# Altium footprint library connectorsmd.PcbLib: 4 footprints
Each footprint in its own frame and in the unit in brackets; x right, y up, seen from the top. Pads: shape width x height; smd on the part's side, far side on the other; paste and mask are expansions set on the pad; w line width, h text height; cw(c..) or ccw(c..) is an arc to the next point about the centre after c.
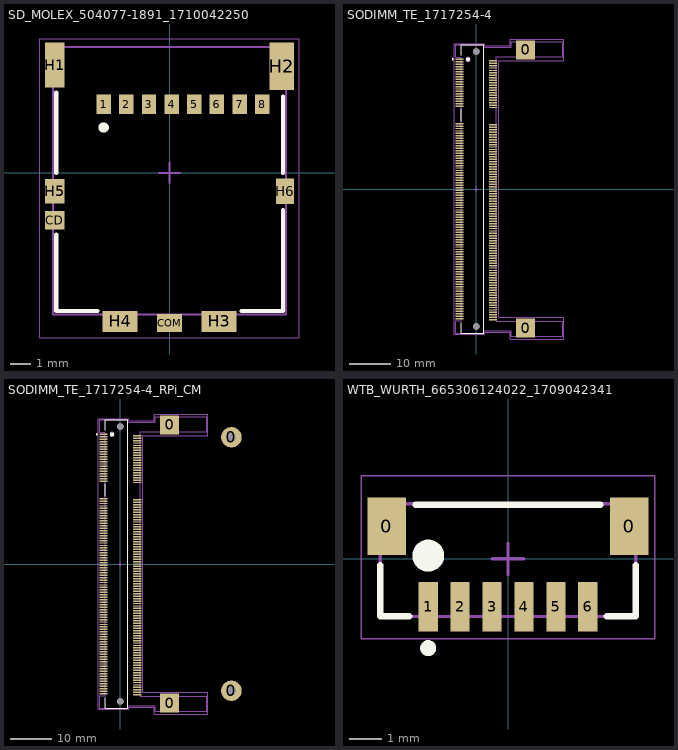
[diagram p0: the footprints below, top view; thin cyan lines are the x and y axes]

## SD_MOLEX_504077-1891_1710042250 [mm] "uSD Molex 504077-1891"
height 1.28
pads (16):
  rect 0.7x0.95 smd: 1(-3.2,3.335) 2(-2.1,3.335) 3(-1,3.335) 4(0.1,3.335) 5(1.2,3.335) 6(2.3,3.335) 7(3.4,3.335) 8(4.5,3.335)
  rect 0.95x0.9 smd: CD(-5.575,-2.3)
  rect 1.2x0.88 smd: COM(0,-7.29)
  rect 0.95x2.17 smd: H1(-5.575,5.235)
  rect 1.19x2.3 smd: H2(5.455,5.17)
  rect 1.7x1.03 smd: H3(2.4,-7.215) H4(-2.4,-7.215)
  rect 0.95x1.2 smd: H5(-5.575,-0.89)
  rect 0.88x1.25 smd: H6(5.61,-0.895)
Top Overlay:
  circle w0.25: c-3.2,2.2 r0.125
  lines w0.2: -5.5,-3 -5.5,-6.7 -3.5,-6.7 ; -5.5,0 -5.5,3.9 ; 3.5,-6.7 5.5,-6.7 5.5,-1.8 ; 5.5,0 5.5,3.7
Assembly Outline:
  lines w0.1: -5.66,-6.88 5.66,-6.88 5.66,6.12 -5.66,6.12 -5.66,-6.88
Assembly Refdes:
  text ".Designator" at 0,0 h0.5
Courtyard Outline:
  lines w0.05: -6.3,-8 -6.3,6.5 6.3,6.5 6.3,-8 -6.3,-8
  lines w0.1: -0.5,0 0.5,0 ; 0,-0.5 0,0.5
3D body "5040771891.stp": height 1.41, standoff 0.13, extent -5.671,-7.385 5.709,6.115

## SODIMM_TE_1717254-4 [mm] "SODIMM 200 pin DDR2 TE 1717254-4"
height 1.75
pads (204):
  round 1.6 hole 1.6 unplated: 0(0,-33.4) 0(0,33.4)
  rect 4.6x4.6 smd: 0(12,-33.8) 0(12,33.8)
  rect 2x0.35 smd: 1(-4.1,31.5) 2(4.1,31.2) 3(-4.1,30.9) 4(4.1,30.6) 5(-4.1,30.3) 6(4.1,30) 7(-4.1,29.7) 8(4.1,29.4) 9(-4.1,29.1) 10(4.1,28.8) 11(-4.1,28.5) 12(4.1,28.2) 13(-4.1,27.9) 14(4.1,27.6) 15(-4.1,27.3) 16(4.1,27) 17(-4.1,26.7) 18(4.1,26.4) 19(-4.1,26.1) 20(4.1,25.8) 21(-4.1,25.5) 22(4.1,25.2) 23(-4.1,24.9) 24(4.1,24.6) 25(-4.1,24.3) 26(4.1,24) 27(-4.1,23.7) 28(4.1,23.4) 29(-4.1,23.1) 30(4.1,22.8) 31(-4.1,22.5) 32(4.1,22.2) 33(-4.1,21.9) 34(4.1,21.6) 35(-4.1,21.3) 36(4.1,21) 37(-4.1,20.7) 38(4.1,20.4) 39(-4.1,20.1) 40(4.1,19.8) 41(-4.1,15.9) 42(4.1,15.6) 43(-4.1,15.3) 44(4.1,15) 45(-4.1,14.7) 46(4.1,14.4) 47(-4.1,14.1) 48(4.1,13.8) 49(-4.1,13.5) 50(4.1,13.2) 51(-4.1,12.9) 52(4.1,12.6) 53(-4.1,12.3) 54(4.1,12) 55(-4.1,11.7) 56(4.1,11.4) 57(-4.1,11.1) 58(4.1,10.8) 59(-4.1,10.5) 60(4.1,10.2) 61(-4.1,9.9) 62(4.1,9.6) 63(-4.1,9.3) 64(4.1,9) 65(-4.1,8.7) 66(4.1,8.4) 67(-4.1,8.1) 68(4.1,7.8) 69(-4.1,7.5) 70(4.1,7.2) 71(-4.1,6.9) 72(4.1,6.6) 73(-4.1,6.3) 74(4.1,6) 75(-4.1,5.7) 76(4.1,5.4) 77(-4.1,5.1) 78(4.1,4.8) 79(-4.1,4.5) 80(4.1,4.2) 81(-4.1,3.9) 82(4.1,3.6) 83(-4.1,3.3) 84(4.1,3) 85(-4.1,2.7) 86(4.1,2.4) 87(-4.1,2.1) 88(4.1,1.8) 89(-4.1,1.5) 90(4.1,1.2) 91(-4.1,0.9) 92(4.1,0.6) 93(-4.1,0.3) 94(4.1,0) 95(-4.1,-0.3) 96(4.1,-0.6) 97(-4.1,-0.9) 98(4.1,-1.2) 99(-4.1,-1.5) 100(4.1,-1.8) 101(-4.1,-2.1) 102(4.1,-2.4) 103(-4.1,-2.7) 104(4.1,-3) 105(-4.1,-3.3) 106(4.1,-3.6) 107(-4.1,-3.9) 108(4.1,-4.2) 109(-4.1,-4.5) 110(4.1,-4.8) 111(-4.1,-5.1) 112(4.1,-5.4) 113(-4.1,-5.7) 114(4.1,-6) 115(-4.1,-6.3) 116(4.1,-6.6) 117(-4.1,-6.9) 118(4.1,-7.2) 119(-4.1,-7.5) 120(4.1,-7.8) 121(-4.1,-8.1) 122(4.1,-8.4) 123(-4.1,-8.7) 124(4.1,-9) 125(-4.1,-9.3) 126(4.1,-9.6) 127(-4.1,-9.9) 128(4.1,-10.2) 129(-4.1,-10.5) 130(4.1,-10.8) 131(-4.1,-11.1) 132(4.1,-11.4) 133(-4.1,-11.7) 134(4.1,-12) 135(-4.1,-12.3) 136(4.1,-12.6) 137(-4.1,-12.9) 138(4.1,-13.2) 139(-4.1,-13.5) 140(4.1,-13.8) 141(-4.1,-14.1) 142(4.1,-14.4) 143(-4.1,-14.7) 144(4.1,-15) 145(-4.1,-15.3) 146(4.1,-15.6) 147(-4.1,-15.9) 148(4.1,-16.2) 149(-4.1,-16.5) 150(4.1,-16.8) 151(-4.1,-17.1) 152(4.1,-17.4) 153(-4.1,-17.7) 154(4.1,-18) 155(-4.1,-18.3) 156(4.1,-18.6) 157(-4.1,-18.9) 158(4.1,-19.2) 159(-4.1,-19.5) 160(4.1,-19.8) 161(-4.1,-20.1) 162(4.1,-20.4) 163(-4.1,-20.7) 164(4.1,-21) 165(-4.1,-21.3) 166(4.1,-21.6) 167(-4.1,-21.9) 168(4.1,-22.2) 169(-4.1,-22.5) 170(4.1,-22.8) 171(-4.1,-23.1) 172(4.1,-23.4) 173(-4.1,-23.7) 174(4.1,-24) 175(-4.1,-24.3) 176(4.1,-24.6) 177(-4.1,-24.9) 178(4.1,-25.2) 179(-4.1,-25.5) 180(4.1,-25.8) 181(-4.1,-26.1) 182(4.1,-26.4) 183(-4.1,-26.7) 184(4.1,-27) 185(-4.1,-27.3) 186(4.1,-27.6) 187(-4.1,-27.9) 188(4.1,-28.2) 189(-4.1,-28.5) 190(4.1,-28.8) 191(-4.1,-29.1) 192(4.1,-29.4) 193(-4.1,-29.7) 194(4.1,-30) 195(-4.1,-30.3) 196(4.1,-30.6) 197(-4.1,-30.9) 198(4.1,-31.2) 199(-4.1,-31.5) 200(4.1,-31.8)
Top Overlay:
  circle w0.25: c-5.7,31.5 r0.125
  circle w0.6: c-2,31.5 r0.2
  lines w0.2: -3.7,-32.5 -3.7,-35 1.85,-35 1.85,35 -3.7,35 -3.7,32.5 ; -3.7,16.5 -3.7,19.5
Assembly Outline:
  circle w0.1: c-2,31.5 r0.5
  lines w0.1: -5,-35 1.85,-35 1.85,-34.5 5,-34.5 8.45,-34.5 8.45,-35.75 21,-35.75 21,-34.5 21,-32.1 4.8,-32.1 4.8,-16.4 4.8,16.4 4.8,21.269 4.8,28.256 4.8,32.1 21,32.1 21,34.5 21,35.75 8.45,35.75 8.45,34.5 5,34.5 1.85,34.5 1.85,35 -5,35 -5,32 -3.7,32 -3.7,-23.2 -3.7,-32 -5,-32 -5,-35
Assembly Refdes:
  text ".Designator" at 0,0 h0.5
Courtyard Outline:
  lines w0.05: -5.35,-35.25 2.1,-35.25 2.1,-34.75 2.75,-34.75 7.375,-34.75 8.2,-34.75 8.2,-36.45 21.25,-36.45 21.25,-34.75 21.25,-31.125 5.45,-31.125 5.45,-27.85 5.45,-19.35 5.45,31.125 21.25,31.125 21.25,34.75 21.25,36.45 8.2,36.45 8.2,34.75 7.375,34.75 2.75,34.75 2.1,34.75 2.1,35.25 -5.35,35.25 -5.35,-35.25
  lines w0.1: -0.5,0 0.5,0 ; 0,-0.5 0,0.5
3D body "c-1717254-4-d1-3d.stp": height 5.28, standoff -0.62, extent -5,-35.75 21.04,35.75

## SODIMM_TE_1717254-4_RPi_CM [mm] "SODIMM 200 pin DDR2 TE 1717254-4"
height 1.75
pads (206):
  round 1.6 hole 1.6 unplated: 0(0,-33.4) 0(0,33.4)
  rect 4.6x4.6 smd: 0(12,-33.8) 0(12,33.8)
  round 5 hole 2.3: 0(27,-30.8) 0(27,30.8)
  rect 2x0.35 smd: 1(-4.1,31.5) 2(4.1,31.2) 3(-4.1,30.9) 4(4.1,30.6) 5(-4.1,30.3) 6(4.1,30) 7(-4.1,29.7) 8(4.1,29.4) 9(-4.1,29.1) 10(4.1,28.8) 11(-4.1,28.5) 12(4.1,28.2) 13(-4.1,27.9) 14(4.1,27.6) 15(-4.1,27.3) 16(4.1,27) 17(-4.1,26.7) 18(4.1,26.4) 19(-4.1,26.1) 20(4.1,25.8) 21(-4.1,25.5) 22(4.1,25.2) 23(-4.1,24.9) 24(4.1,24.6) 25(-4.1,24.3) 26(4.1,24) 27(-4.1,23.7) 28(4.1,23.4) 29(-4.1,23.1) 30(4.1,22.8) 31(-4.1,22.5) 32(4.1,22.2) 33(-4.1,21.9) 34(4.1,21.6) 35(-4.1,21.3) 36(4.1,21) 37(-4.1,20.7) 38(4.1,20.4) 39(-4.1,20.1) 40(4.1,19.8) 41(-4.1,15.9) 42(4.1,15.6) 43(-4.1,15.3) 44(4.1,15) 45(-4.1,14.7) 46(4.1,14.4) 47(-4.1,14.1) 48(4.1,13.8) 49(-4.1,13.5) 50(4.1,13.2) 51(-4.1,12.9) 52(4.1,12.6) 53(-4.1,12.3) 54(4.1,12) 55(-4.1,11.7) 56(4.1,11.4) 57(-4.1,11.1) 58(4.1,10.8) 59(-4.1,10.5) 60(4.1,10.2) 61(-4.1,9.9) 62(4.1,9.6) 63(-4.1,9.3) 64(4.1,9) 65(-4.1,8.7) 66(4.1,8.4) 67(-4.1,8.1) 68(4.1,7.8) 69(-4.1,7.5) 70(4.1,7.2) 71(-4.1,6.9) 72(4.1,6.6) 73(-4.1,6.3) 74(4.1,6) 75(-4.1,5.7) 76(4.1,5.4) 77(-4.1,5.1) 78(4.1,4.8) 79(-4.1,4.5) 80(4.1,4.2) 81(-4.1,3.9) 82(4.1,3.6) 83(-4.1,3.3) 84(4.1,3) 85(-4.1,2.7) 86(4.1,2.4) 87(-4.1,2.1) 88(4.1,1.8) 89(-4.1,1.5) 90(4.1,1.2) 91(-4.1,0.9) 92(4.1,0.6) 93(-4.1,0.3) 94(4.1,0) 95(-4.1,-0.3) 96(4.1,-0.6) 97(-4.1,-0.9) 98(4.1,-1.2) 99(-4.1,-1.5) 100(4.1,-1.8) 101(-4.1,-2.1) 102(4.1,-2.4) 103(-4.1,-2.7) 104(4.1,-3) 105(-4.1,-3.3) 106(4.1,-3.6) 107(-4.1,-3.9) 108(4.1,-4.2) 109(-4.1,-4.5) 110(4.1,-4.8) 111(-4.1,-5.1) 112(4.1,-5.4) 113(-4.1,-5.7) 114(4.1,-6) 115(-4.1,-6.3) 116(4.1,-6.6) 117(-4.1,-6.9) 118(4.1,-7.2) 119(-4.1,-7.5) 120(4.1,-7.8) 121(-4.1,-8.1) 122(4.1,-8.4) 123(-4.1,-8.7) 124(4.1,-9) 125(-4.1,-9.3) 126(4.1,-9.6) 127(-4.1,-9.9) 128(4.1,-10.2) 129(-4.1,-10.5) 130(4.1,-10.8) 131(-4.1,-11.1) 132(4.1,-11.4) 133(-4.1,-11.7) 134(4.1,-12) 135(-4.1,-12.3) 136(4.1,-12.6) 137(-4.1,-12.9) 138(4.1,-13.2) 139(-4.1,-13.5) 140(4.1,-13.8) 141(-4.1,-14.1) 142(4.1,-14.4) 143(-4.1,-14.7) 144(4.1,-15) 145(-4.1,-15.3) 146(4.1,-15.6) 147(-4.1,-15.9) 148(4.1,-16.2) 149(-4.1,-16.5) 150(4.1,-16.8) 151(-4.1,-17.1) 152(4.1,-17.4) 153(-4.1,-17.7) 154(4.1,-18) 155(-4.1,-18.3) 156(4.1,-18.6) 157(-4.1,-18.9) 158(4.1,-19.2) 159(-4.1,-19.5) 160(4.1,-19.8) 161(-4.1,-20.1) 162(4.1,-20.4) 163(-4.1,-20.7) 164(4.1,-21) 165(-4.1,-21.3) 166(4.1,-21.6) 167(-4.1,-21.9) 168(4.1,-22.2) 169(-4.1,-22.5) 170(4.1,-22.8) 171(-4.1,-23.1) 172(4.1,-23.4) 173(-4.1,-23.7) 174(4.1,-24) 175(-4.1,-24.3) 176(4.1,-24.6) 177(-4.1,-24.9) 178(4.1,-25.2) 179(-4.1,-25.5) 180(4.1,-25.8) 181(-4.1,-26.1) 182(4.1,-26.4) 183(-4.1,-26.7) 184(4.1,-27) 185(-4.1,-27.3) 186(4.1,-27.6) 187(-4.1,-27.9) 188(4.1,-28.2) 189(-4.1,-28.5) 190(4.1,-28.8) 191(-4.1,-29.1) 192(4.1,-29.4) 193(-4.1,-29.7) 194(4.1,-30) 195(-4.1,-30.3) 196(4.1,-30.6) 197(-4.1,-30.9) 198(4.1,-31.2) 199(-4.1,-31.5) 200(4.1,-31.8)
Top Overlay:
  circle w0.25: c-5.7,31.5 r0.125
  circle w0.6: c-2,31.5 r0.2
  lines w0.2: -3.7,-32.5 -3.7,-35 1.85,-35 1.85,35 -3.7,35 -3.7,32.5 ; -3.7,16.5 -3.7,19.5
Assembly Outline:
  circle w0.1: c-2,31.5 r0.5
  lines w0.1: -5,-35 1.85,-35 1.85,-34.5 5,-34.5 8.45,-34.5 8.45,-35.75 21,-35.75 21,-34.5 21,-32.1 4.8,-32.1 4.8,-16.4 4.8,16.4 4.8,21.269 4.8,28.256 4.8,32.1 21,32.1 21,34.5 21,35.75 8.45,35.75 8.45,34.5 5,34.5 1.85,34.5 1.85,35 -5,35 -5,32 -3.7,32 -3.7,-23.2 -3.7,-32 -5,-32 -5,-35
Assembly Refdes:
  text ".Designator" at 0,0 h0.5
Courtyard Outline:
  lines w0.05: -5.35,-35.25 2.1,-35.25 2.1,-34.75 2.75,-34.75 7.375,-34.75 8.2,-34.75 8.2,-36.45 21.25,-36.45 21.25,-34.75 21.25,-31.125 5.45,-31.125 5.45,-27.85 5.45,-19.35 5.45,31.125 21.25,31.125 21.25,34.75 21.25,36.45 8.2,36.45 8.2,34.75 7.375,34.75 2.75,34.75 2.1,34.75 2.1,35.25 -5.35,35.25 -5.35,-35.25
  lines w0.1: -0.5,0 0.5,0 ; 0,-0.5 0,0.5
3D body "computeModule.stp": height 4, standoff 2.5, extent 0,-33.925 30,33.675
3D body "c-1717254-4-d1-3d.stp": height 5.28, standoff -0.62, extent -5,-35.75 21.04,35.75

## WTB_WURTH_665306124022_1709042341 [mm] "WTB 6P male straight Wurth 665306124022"
height 4.85
pads (8):
  rect 1.2x1.8 smd: 0(-3.8,1.025) 0(3.8,1.025)
  rect 0.6x1.55 smd: 1(-2.5,-1.5) 2(-1.5,-1.5) 3(-0.5,-1.5) 4(0.5,-1.5) 5(1.5,-1.5) 6(2.5,-1.5)
Top Overlay:
  circle w0.25: c-2.5,-2.8 r0.125
  circle w0.6: c-2.5,0.1 r0.2
  lines w0.2: -4,-0.2 -4,-1.8 -3.1,-1.8 ; -2.9,1.7 2.9,1.7 ; 3.1,-1.8 4,-1.8 4,-0.2
Assembly Outline:
  lines w0.1: -4,-1.805 4,-1.805 4,1.725 -4,1.725 -4,-1.805
Assembly Refdes:
  text ".Designator" at 0,0 h0.5
Courtyard Outline:
  lines w0.05: -4.6,-2.5 -4.6,2.6 4.6,2.6 4.6,-2.5 -4.6,-2.5
  lines w0.1: -0.5,0 0.5,0 ; 0,-0.5 0,0.5
3D body "STEP-665306124022-rev1.stp": height 5.08, standoff -0.05, extent -4,-2.1 4,2.4